# EAGLE library part 649018227222 (library Wuerth_Elektronik_eiCan_07_Mini_Power_Connectors)
WR-MPC4-4.20mm Male Dual Row Angled Header with Mounting Pegs,18 pins
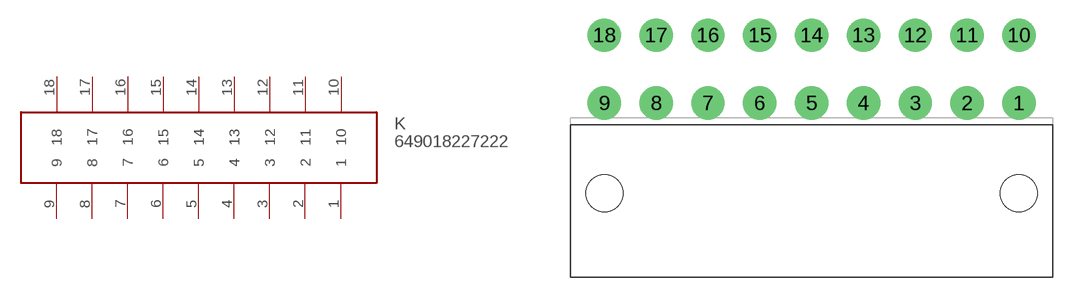
[diagram p16: symbol with the pads of 649018227222; footprint 649018227222]

Designator prefix K

## 649018227222  [649018227222]
1  1
2  2
3  3
4  4
5  5
6  6
7  7
8  8
9  9
10  10
11  11
12  12
13  13
14  14
15  15
16  16
17  17
18  18

## Footprint 649018227222 (pad centres in mm)
WR-MPC4-4.20mm Male Dual Row Angled Header with Mounting Pegs,18 pins
drill 1.8 round: 1 17.925,-2.75; 2 13.725,-2.75; 3 9.525,-2.75; 4 5.325,-2.75; 5 1.125,-2.75; 6 -3.075,-2.75; 7 -7.275,-2.75; 8 -11.475,-2.75; 9 -15.675,-2.75; 10 17.925,2.75; 11 13.725,2.75; 12 9.525,2.75; 13 5.325,2.75; 14 1.125,2.75; 15 -3.075,2.75; 16 -7.275,2.75; 17 -11.475,2.75; 18 -15.675,2.75
hole 3 at -15.675,-10.05
hole 3 at 17.925,-10.05